# EAGLE library part RF-24G (library RF-24G)
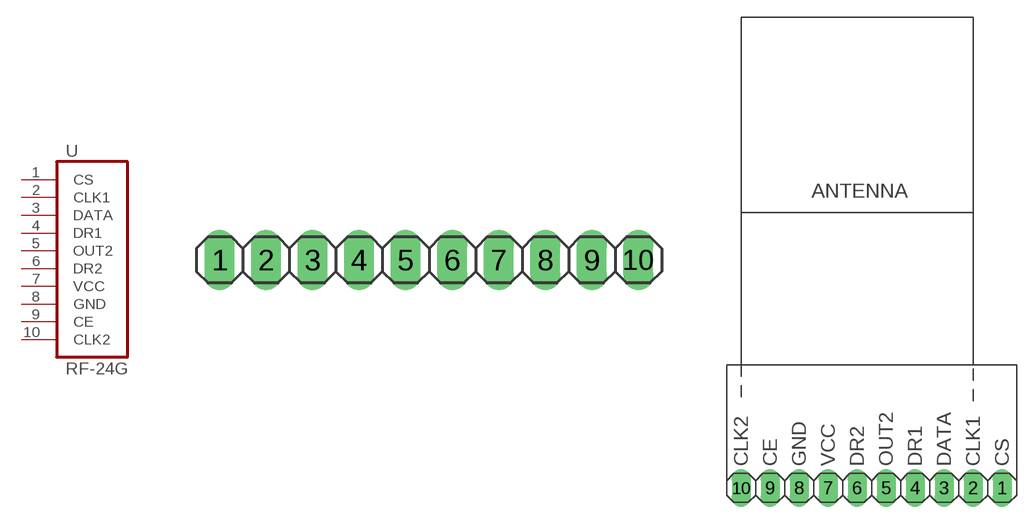
[diagram p0: symbol with the pads of 1X10; footprints 1X10, RF-24G]

Designator prefix -

## RF-24GPINHEAD  [1X10]
1  CS
2  CLK1
3  DATA
4  DR1
5  OUT2
6  DR2
7  VCC  pwr
8  GND  pwr
9  CE
10  CLK2

## RF-24GRF-24G  [RF-24G]
Pads as for 1X10

## Footprint 1X10 (pad centres in mm)
PIN HEADER
drill 1.1 long: 1 -11.43,0; 2 -8.89,0; 3 -6.35,0; 4 -3.81,0; 5 -1.27,0; 6 1.27,0; 7 3.81,0; 8 6.35,0; 9 8.89,0; 10 11.43,0

## Footprint RF-24G (pad centres in mm)
drill 1.1 long: 1 11.43,0; 2 8.89,0; 3 6.35,0; 4 3.81,0; 5 1.27,0; 6 -1.27,0; 7 -3.81,0; 8 -6.35,0; 9 -8.89,0; 10 -11.43,0